# Altium footprint library usomiq-base.PcbLib: 28 footprints (part 1 of 2)
Each footprint in its own frame and in the unit in brackets; x right, y up, seen from the top. Pads: shape width x height; smd on the part's side, far side on the other; paste and mask are expansions set on the pad; w line width, h text height; cw(c..) or ccw(c..) is an arc to the next point about the centre after c.
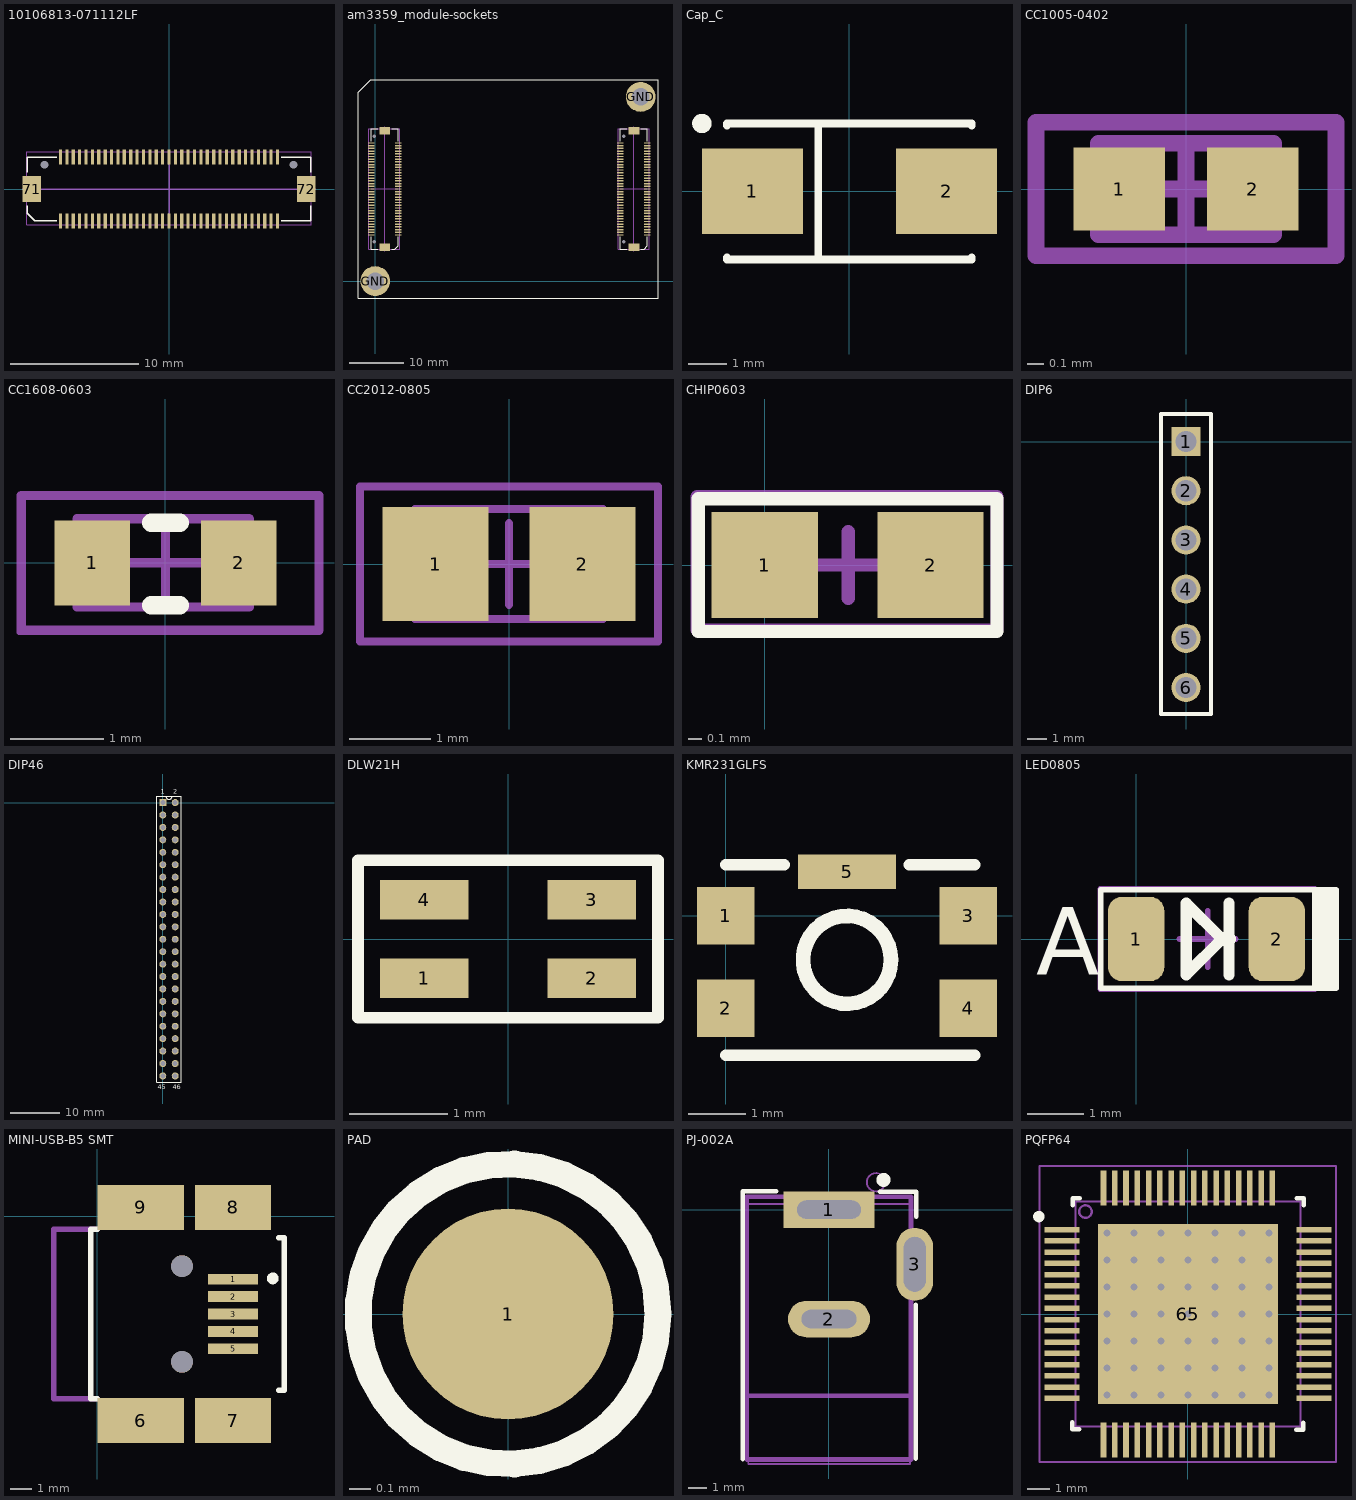
[diagram p0: the footprints below, top view; thin cyan lines are the x and y axes]

## 10106813-071112LF [mm]
pads (74):
  rect 0.25x1.2 smd paste+0 mask+0.02: 1(-8.5,-2.5)
  rect 0.25x1.2 smd mask+0.02: 2(-8.5,2.5) 3(-8,-2.5) 4(-8,2.5) 5(-7.5,-2.5) 6(-7.5,2.5) 7(-7,-2.5) 8(-7,2.5) 9(-6.5,-2.5) 10(-6.5,2.5) 11(-6,-2.5) 12(-6,2.5) 13(-5.5,-2.5) 14(-5.5,2.5) 15(-5,-2.5) 16(-5,2.5) 17(-4.5,-2.5) 18(-4.5,2.5) 19(-4,-2.5) 20(-4,2.5) 21(-3.5,-2.5) 22(-3.5,2.5) 23(-3,-2.5) 24(-3,2.5) 25(-2.5,-2.5) 26(-2.5,2.5) 27(-2,-2.5) 28(-2,2.5) 29(-1.5,-2.5) 30(-1.5,2.5) 31(-1,-2.5) 32(-1,2.5) 33(-0.5,-2.5) 34(-0.5,2.5) 35(0,-2.5) 36(0,2.5) 37(0.5,-2.5) 38(0.5,2.5) 39(1,-2.5) 40(1,2.5) 41(1.5,-2.5) 42(1.5,2.5) 43(2,-2.5) 44(2,2.5) 45(2.5,-2.5) 46(2.5,2.5) 47(3,-2.5) 48(3,2.5) 49(3.5,-2.5) 50(3.5,2.5) 51(4,-2.5) 52(4,2.5) 53(4.5,-2.5) 54(4.5,2.5) 55(5,-2.5) 56(5,2.5) 57(5.5,-2.5) 58(5.5,2.5) 59(6,-2.5) 60(6,2.5) 61(6.5,-2.5) 62(6.5,2.5) 63(7,-2.5) 64(7,2.5) 65(7.5,-2.5) 66(7.5,2.5) 67(8,-2.5) 68(8,2.5) 69(8.5,-2.5) 70(8.5,2.5)
  rect 1.45x2 smd mask+0.02: 71(-10.75,0) 72(10.75,0)
  rect 0.25x0 hole 0.625 unplated mask+0.02: NC(-9.75,1.9) NC(9.75,1.9)
Top Overlay:
  lines w0.1: -11.1,-1.3 -11.1,-1.9 -10.5,-2.5 -8.8,-2.5 ; -11.1,1.3 -11.1,2.5 -8.8,2.5 ; 8.8,-2.5 11.1,-2.5 11.1,-1.3 ; 8.8,2.5 11.1,2.5 11.1,1.3
Mechanical 1:
  lines w0.1: -11.5,0 0,0 11.5,0 ; 0,-2.5 0,2.5
Mechanical 2:
  lines w0.05: -11.15,-2.8 11.125,-2.8 11.125,2.9 -11.15,2.9 -11.15,-2.8
  text ".designator" at -1.5,-0.175 h0.5
3D body: height 3.5, standoff -0.6, extent -11.115,-2.825 11.125,2.875

## am3359_module-sockets [mm]
height 7
pads (150):
  rect 1.2x0.25 smd paste+0 mask+0.02: A1(4.25,8.5) A2(-0.75,8.5) A3(4.25,9) A4(-0.75,9) A5(4.25,9.5) A6(-0.75,9.5) A7(4.25,10) A8(-0.75,10) A9(4.25,10.5) A10(-0.75,10.5) A11(4.25,11) A12(-0.75,11) A13(4.25,11.5) A14(-0.75,11.5) A15(4.25,12) A16(-0.75,12) A17(4.25,12.5) A18(-0.75,12.5) A19(4.25,13) A20(-0.75,13) A21(4.25,13.5) A22(-0.75,13.5) A23(4.25,14) A24(-0.75,14) A25(4.25,14.5) A26(-0.75,14.5) A27(4.25,15) A28(-0.75,15) A29(4.25,15.5) A30(-0.75,15.5) A31(4.25,16) A32(-0.75,16) A33(4.25,16.5) A34(-0.75,16.5) A35(4.25,17) A36(-0.75,17) A37(4.25,17.5) A38(-0.75,17.5) A39(4.25,18) A40(-0.75,18) A41(4.25,18.5) A42(-0.75,18.5) A43(4.25,19) A44(-0.75,19) A45(4.25,19.5) A46(-0.75,19.5) A47(4.25,20) A48(-0.75,20) A49(4.25,20.5) A50(-0.75,20.5) A51(4.25,21) A52(-0.75,21) A53(4.25,21.5) A54(-0.75,21.5) A55(4.25,22) A56(-0.75,22) A57(4.25,22.5) A58(-0.75,22.5) A59(4.25,23) A60(-0.75,23) A61(4.25,23.5) A62(-0.75,23.5) A63(4.25,24) A64(-0.75,24) A65(4.25,24.5) A66(-0.75,24.5) A67(4.25,25) A68(-0.75,25) A69(4.25,25.5) A70(-0.75,25.5) B1(50.25,8.5) B2(45.25,8.5) B3(50.25,9) B4(45.25,9) B5(50.25,9.5) B6(45.25,9.5) B7(50.25,10) B8(45.25,10) B9(50.25,10.5) B10(45.25,10.5) B11(50.25,11) B12(45.25,11) B13(50.25,11.5) B14(45.25,11.5) B15(50.25,12) B16(45.25,12) B17(50.25,12.5) B18(45.25,12.5) B19(50.25,13) B20(45.25,13) B21(50.25,13.5) B22(45.25,13.5) B23(50.25,14) B24(45.25,14) B25(50.25,14.5) B26(45.25,14.5) B27(50.25,15) B28(45.25,15) B29(50.25,15.5) B30(45.25,15.5) B31(50.25,16) B32(45.25,16) B33(50.25,16.5) B34(45.25,16.5) B35(50.25,17) B36(45.25,17) B37(50.25,17.5) B38(45.25,17.5) B39(50.25,18) B40(45.25,18) B41(50.25,18.5) B42(45.25,18.5) B43(50.25,19) B44(45.25,19) B45(50.25,19.5) B46(45.25,19.5) B47(50.25,20) B48(45.25,20) B49(50.25,20.5) B50(45.25,20.5) B51(50.25,21) B52(45.25,21) B53(50.25,21.5) B54(45.25,21.5) B55(50.25,22) B56(45.25,22) B57(50.25,22.5) B58(45.25,22.5) B59(50.25,23) B60(45.25,23) B61(50.25,23.5) B62(45.25,23.5) B63(50.25,24) B64(45.25,24) B65(50.25,24.5) B66(45.25,24.5) B67(50.25,25) B68(45.25,25) B69(50.25,25.5) B70(45.25,25.5)
  round 5.5 hole 3.2 unplated mask+0.05: GND(0,0) GND(49,34)
  rect 2x1.45 smd mask+0.02: GND(1.75,6.25) GND(1.75,27.75) GND(47.75,6.25) GND(47.75,27.75)
  rect 0x0.25 hole 0.625 mask+0.02: NC(-0.15,7.25) NC(-0.15,26.75) NC(45.85,7.25) NC(45.85,26.75)
Top Overlay:
  lines w0.1: -0.75,8.2 -0.75,5.9 0.45,5.9 ; -0.75,25.8 -0.75,28.1 0.45,28.1 ; 3.05,5.9 3.65,5.9 4.25,6.5 4.25,8.2 ; 3.05,28.1 4.25,28.1 4.25,25.8 ; 45.25,8.2 45.25,5.9 46.45,5.9 ; 45.25,25.8 45.25,28.1 46.45,28.1 ; 49.05,5.9 49.65,5.9 50.25,6.5 50.25,8.2 ; 49.05,28.1 50.25,28.1 50.25,25.8 ; -3.175,-3.2 -3.175,34.825 -0.8,37.2 52.2,37.2 52.2,-3.2 -3.175,-3.2
Mechanical 1:
  lines w0.1: 1.75,17 1.75,5.5 1.75,17 ; 1.75,17 1.75,28.5 1.75,17 ; 47.75,17 47.75,5.5 47.75,17 ; 47.75,17 47.75,28.5 47.75,17 ; -0.75,17 4.25,17 -0.75,17 ; 45.25,17 50.25,17 45.25,17
Mechanical 2:
  lines w0.05: -1.15,5.85 -1.15,28.125 4.55,28.125 4.55,5.85 -1.15,5.85 ; 44.85,5.85 44.85,28.125 50.55,28.125 50.55,5.85 44.85,5.85
3D body: height 3.5, standoff -0.6, extent 44.875,5.885 50.575,28.125
3D body: height 3.5, standoff -0.6, extent -1.125,5.885 4.575,28.125

## Cap_C [mm] "Capacitor, SM Tantalum; Body 6.0 x 3.2 mm (LxW typ)"
height 3.4
pads (2):
  rect 2.6x2.2 smd: 1(-2.5,0) 2(2.5,0)
Top Overlay:
  circle w0.25: c-3.8,1.75 r0.125
  lines w0.2: -3.15,-1.7 -3.15,-1.75 3.15,-1.75 3.15,-1.7 ; -3.15,1.7 -3.15,1.75 3.15,1.75 3.15,1.7 ; -0.8,-1.75 -0.8,1.75
3D body: height 2.8, standoff 0, extent -3.15,-1.75 3.15,1.75

## CC1005-0402 [mm] "Chip Capacitor, 2-Leads, Body 1,0x0,5mm, IPC Medium Density"
height 0.35
pads (2):
  rect 0.55x0.5 smd mask+0.05: 1(-0.4,0) 2(0.4,0)
Mechanical 2:
  lines w0.05: -0.9,-0.4 0.9,-0.4 0.9,0.4 -0.9,0.4 -0.9,-0.4
  text ".designator" at -0.825,-0.2 h0.5
Mechanical 13:
  lines w0.1: -0.525,-0.275 -0.525,0.275 0.525,0.275 0.525,-0.275 -0.525,-0.275
Mechanical 15:
  lines w0.1: -0.275,0 0.275,0 ; 0,-0.275 0,0.275 ; -0.9,-0.4 -0.9,0.4 0.9,0.4 0.9,-0.4 -0.9,-0.4
3D body: height 0.51, standoff 0, extent -0.508,-0.25 0.508,0.258

## CC1608-0603 [mil] "Chip Capacitor, 2-Leads, Body 1,6x0,8mm, IPC Medium Density"
height 17.72
pads (2):
  rect 32x36 smd: 1(-31,0) 2(31,0)
Top Overlay:
  lines w7.87: -6,-18 6,-18 ; -6,17 6,17
Mechanical 2:
  lines w1.97: -62.01,-29.53 64.96,-29.53 64.96,28.54 -62.01,28.54 -62.01,-29.53
  text ".designator" at -43.31,-10.83 h19.68
Mechanical 13:
  lines w3.94: -37.42,-18.7 -37.42,18.7 35.42,18.7 35.42,-18.7 -37.42,-18.7
Mechanical 15:
  lines w3.94: -18.7,0 18.7,0 ; 0,-18.7 0,18.7 ; -60.99,-28.54 64.99,-28.54 64.99,28.54 -60.99,28.54 -60.99,-28.54
3D body: height 31.5, standoff 0, extent -31.49,-15.74 31.5,15.75

## CC2012-0805 [mm] "Chip Capacitor, 2-Leads, Body 2,0x1,25mm, IPC Medium Density"
height 0.6
pads (2):
  rect 1.3x1.4 smd: 1(-0.9,0) 2(0.9,0)
Mechanical 2:
  lines w0.05: -1.85,0.925 -1.85,-0.925 1.825,-0.925 1.825,0.95 -1.85,0.95
  text ".designator" at -1.525,-0.225 h0.5
Mechanical 13:
  lines w0.1: -1.15,-0.675 -1.15,0.675 1.15,0.675 1.15,-0.675 -1.15,-0.675
Mechanical 15:
  lines w0.1: -0.5,0 0.5,0 ; 0,-0.5 0,0.5 ; -1.825,-0.95 -1.825,0.95 1.825,0.95 1.825,-0.95 -1.825,-0.95
3D body: height 1.2, standoff 0, extent -1,-0.6 1,0.6

## CHIP0603 [mm]
height 0.7
pads (2):
  rect 0.8x0.8 smd: 1(0,0) 2(1.25,0)
Top Overlay:
  lines w0.1: -0.5,-0.5 -0.5,0.5 1.75,0.5 1.75,-0.5 -0.5,-0.5
Mechanical 13:
  lines w0.1: -0.51,-0.49 -0.51,0.51 1.75,0.51 1.75,-0.49 -0.51,-0.49
Mechanical 15:
  lines w0.1: 0.38,0 0.88,0 ; 0.63,-0.25 0.63,0.25 ; -0.51,-0.49 -0.51,0.516 1.75,0.516 1.75,-0.49 -0.51,-0.49
3D body: height 0.7, standoff 0.1, extent -0.525,-0.5 1.75,0.51
3D body: height 0.95, standoff 0, extent -0.165,-0.4 1.435,0.4

## DIP6 [mm]
pads (6):
  rect 1.48x1.48 hole 1.08: 1(0,0)
  round 1.48 hole 1.08: 2(0,-2.5) 3(0,-5) 4(0,-7.5) 5(0,-10) 6(0,-12.5)
Top Overlay:
  lines w0.2: -1.27,-13.843 1.27,-13.843 1.27,1.397 -1.27,1.397 -1.27,-13.843
3D body: height 2, standoff 0, extent -1.15,-13.725 1.125,1.275
3D body: height 8, standoff -3, extent -0.446,-0.449 0.45,0.449
3D body: height 8, standoff -3, extent -0.446,-2.949 0.45,-2.051
3D body: height 8, standoff -3, extent -0.446,-5.449 0.45,-4.551
3D body: height 8, standoff -3, extent -0.446,-7.949 0.45,-7.051
3D body: height 8, standoff -3, extent -0.446,-10.449 0.45,-9.551
3D body: height 8, standoff -3, extent -0.446,-12.949 0.45,-12.051

## DIP46 [mm]
pads (46):
  rect 1.42x1.42 hole 1.02: 1(0,0)
  round 1.42 hole 1.02: 2(2.54,0) 3(0,-2.54) 4(2.54,-2.54) 5(0,-5.08) 6(2.54,-5.08) 7(0,-7.62) 8(2.54,-7.62) 9(0,-10.16) 10(2.54,-10.16) 11(0,-12.7) 12(2.54,-12.7) 13(0,-15.24) 14(2.54,-15.24) 15(0,-17.78) 16(2.54,-17.78) 17(0,-20.32) 18(2.54,-20.32) 19(0,-22.86) 20(2.54,-22.86) 21(0,-25.4) 22(2.54,-25.4) 23(0,-27.94) 24(2.54,-27.94) 25(0,-30.48) 26(2.54,-30.48) 27(0,-33.02) 28(2.54,-33.02) 29(0,-35.56) 30(2.54,-35.56) 31(0,-38.1) 32(2.54,-38.1) 33(0,-40.64) 34(2.54,-40.64) 35(0,-43.18) 36(2.54,-43.18) 37(0,-45.72) 38(2.54,-45.72) 39(0,-48.26) 40(2.54,-48.26) 41(0,-50.8) 42(2.54,-50.8) 43(0,-53.34) 44(2.54,-53.34) 45(0,-55.88) 46(2.54,-55.88)
Top Overlay:
  lines w0.2: -1.27,-57.15 3.81,-57.15 3.81,1.27 0.635,1.27 ccw(c1.27,1.27) 1.905,1.27 -1.27,1.27 -1.27,-57.15
  text "46" at 2.032,-58.547 h1
  text "45" at -1.016,-58.547 h1
  text "2" at 2.159,1.778 h1
  text "1" at -0.381,1.778 h1
3D body: height 8.51, standoff 0, extent -1.27,-57.15 3.81,1.27

## DLW21H [mm] "DLW21H Series Murata"
height 1
pads (4):
  rect 0.9x0.4 smd mask+0.05: 1(-0.85,-0.4) 2(0.85,-0.4) 3(0.85,0.4) 4(-0.85,0.4)
Top Overlay:
  lines w0.12: -1.524,-0.8 1.524,-0.8 1.524,0.8 -1.524,0.8 -1.524,-0.8
3D body: height 1.2, standoff 0, extent -1,-0.6 1,0.6
3D body: height 1, standoff 0, extent -1,-0.6 1,0.6

## KMR231GLFS [mm] "Tactile Switches"
pads (5):
  rect 1x1 smd: 1(0,0) 2(0,-1.6) 3(4.2,0) 4(4.2,-1.6)
  rect 1.7x0.6 smd: 5(2.1,0.762)
Top Overlay:
  circle w0.254: c2.1,-0.762 r0.762
  lines w0.2: 0,-2.413 4.318,-2.413 ; 0,0.889 1.016,0.889 ; 3.175,0.889 4.318,0.889
3D body: height 1, standoff 0, extent 0.127,-2.286 4.064,0.762
3D body: height 1.5, standoff 0, extent 1.302,-1.56 2.896,0.036

## LED0805 [mm]
height 1
pads (2):
  rrect50% 1x1.5 smd: 1(0,0) 2(2.5,0)
Top Overlay:
  lines w0.1: 3.175,-0.875 3.175,0.875 ; 3.275,-0.875 3.275,0.875 ; 3.375,-0.875 3.375,0.875 ; 3.45,-0.875 3.45,0.875 ; -0.625,-0.875 3.55,-0.875 3.55,0.875 -0.625,0.875 -0.625,-0.875
  lines w0.2: 1.651,-0.635 1.651,0.635 ; 0.889,-0.635 1.524,0 0.889,0.635 0.889,-0.635
  lines w0.254: 1.524,0 1.651,0
  text "A" at -1.778,-0.635 h1.2
Mechanical 13:
  lines w0.1: -0.635,-0.889 -0.635,0.889 3.175,0.889 3.175,-0.889 -0.635,-0.889
Mechanical 15:
  lines w0.1: 0.77,0 1.77,0 ; 1.27,-0.5 1.27,0.5 ; -0.635,-0.889 -0.635,0.889 3.175,0.889 3.175,-0.889 -0.635,-0.889
3D body: height 1.1, standoff 0, extent 0.26,-0.625 2.28,0.625
3D body: height 1, standoff 0.1, extent -0.635,-0.889 3.175,0.889

## MINI-USB-B5 SMT [mm]
pads (11):
  rect 2.3x0.5 smd: 1(6.25,-2.9) 2(6.25,-3.7) 3(6.25,-4.5) 4(6.25,-5.3) 5(6.25,-6.1)
  rect 4x2.05 smd: 6(2,-9.4) 9(2,0.4)
  rect 3.5x2.05 smd: 7(6.25,-9.4) 8(6.25,0.4)
  round 1 hole 1 unplated: SYSPAD10(3.9,-6.7) SYSPAD11(3.9,-2.3)
Top Overlay:
  lines w0.25: 0,-8.4 -0.3,-8.4 -0.3,-0.6 0,-0.6 ; 8.35,-8 8.6,-8 8.6,-1 8.35,-1
  lines w0.254: 8.174,-2.763 ccw(c8.074,-2.863) 8.2,-2.8
Mechanical 15:
  lines w0.25: 0,-8.4 -2,-8.4 -2,-0.6 0,-0.6
3D body: height 3.95, standoff -1, extent -1.836,-9.795 7.364,0.905

## PAD [mm]
pads (1):
  round 1 smd mask+0.05: 1(0,0)
Top Overlay:
  circle w0.127: c0,0 r0.711

## PJ-002A [mm] "DC POWER JACK"
height 11
pads (3):
  rect 5x2 hole 1 slot 3.5 at 0 deg: 1(0,0)
  oval 4.5x2 hole 1 slot 3 at 0 deg: 2(0,-6)
  oval 2x4 hole 1.2 slot 3 at 90 deg: 3(4.7,-3)
Top Overlay:
  circle w0.4: c2.985,1.625 r0.185
  lines w0.254: -4.725,-13.675 -4.725,1 -2.9,1 ; 2.8,0.975 4.775,0.975 4.775,-0.4 ; 4.75,-13.645 4.75,-5.225
Mechanical 13:
  circle w0.1: c2.575,1.5 r0.5
  lines w0.1: -4.425,-13.95 -4.425,0.3 4.45,0.3 4.45,-13.95 -4.425,-13.95
Mechanical 15:
  lines w0.254: -4.5,-10.2 4.5,-10.2 ; -4.5,-13.7 4.5,-13.7 4.5,0.7 -4.5,0.7 -4.5,-13.7
3D body: height 11, standoff -3.78, extent -4.373,-13.589 4.927,0.411

## PQFP64 [mm] "64-Pin Quad Flat Pad 0.5 mm Pitch, IPC Low Density"
height 1
pads (65):
  rect 1.55x0.25 smd: 1(-5.6,3.75) 2(-5.6,3.25) 3(-5.6,2.75) 4(-5.6,2.25) 5(-5.6,1.75) 6(-5.6,1.25) 7(-5.6,0.75) 8(-5.6,0.25) 9(-5.6,-0.25) 10(-5.6,-0.75) 11(-5.6,-1.25) 12(-5.6,-1.75) 13(-5.6,-2.25) 14(-5.6,-2.75) 15(-5.6,-3.25) 16(-5.6,-3.75) 33(5.6,-3.75) 34(5.6,-3.25) 35(5.6,-2.75) 36(5.6,-2.25) 37(5.6,-1.75) 38(5.6,-1.25) 39(5.6,-0.75) 40(5.6,-0.25) 41(5.6,0.25) 42(5.6,0.75) 43(5.6,1.25) 44(5.6,1.75) 45(5.6,2.25) 46(5.6,2.75) 47(5.6,3.25) 48(5.6,3.75)
  rect 0.25x1.55 smd: 17(-3.75,-5.6) 18(-3.25,-5.6) 19(-2.75,-5.6) 20(-2.25,-5.6) 21(-1.75,-5.6) 22(-1.25,-5.6) 23(-0.75,-5.6) 24(-0.25,-5.6) 25(0.25,-5.6) 26(0.75,-5.6) 27(1.25,-5.6) 28(1.75,-5.6) 29(2.25,-5.6) 30(2.75,-5.6) 31(3.25,-5.6) 32(3.75,-5.6) 49(3.75,5.6) 50(3.25,5.6) 51(2.75,5.6) 52(2.25,5.6) 53(1.75,5.6) 54(1.25,5.6) 55(0.75,5.6) 56(0.25,5.6) 57(-0.25,5.6) 58(-0.75,5.6) 59(-1.25,5.6) 60(-1.75,5.6) 61(-2.25,5.6) 62(-2.75,5.6) 63(-3.25,5.6) 64(-3.75,5.6)
  rect 8x8 smd: 65(0,0)
via -3.6,-2.4 diameter 0.8 hole 0.3
via -3.6,-1.2 diameter 0.8 hole 0.3
via -3.6,0 diameter 0.8 hole 0.3
via -3.6,1.2 diameter 0.8 hole 0.3
via -3.6,2.4 diameter 0.8 hole 0.3
via -3.6,3.6 diameter 0.8 hole 0.3
via -3.6,-3.6 diameter 0.8 hole 0.3
via 3.6,-2.4 diameter 0.8 hole 0.3
via 3.6,-1.2 diameter 0.8 hole 0.3
via 3.6,0 diameter 0.8 hole 0.3
via 3.6,1.2 diameter 0.8 hole 0.3
via 3.6,2.4 diameter 0.8 hole 0.3
via 3.6,3.6 diameter 0.8 hole 0.3
via 3.6,-3.6 diameter 0.8 hole 0.3
via 2.4,-3.6 diameter 0.8 hole 0.3
via 1.2,-3.6 diameter 0.8 hole 0.3
via 0,-3.6 diameter 0.8 hole 0.3
via -1.2,-3.6 diameter 0.8 hole 0.3
via -2.4,-3.6 diameter 0.8 hole 0.3
via 2.4,3.6 diameter 0.8 hole 0.3
via 1.2,3.6 diameter 0.8 hole 0.3
via 0,3.6 diameter 0.8 hole 0.3
via -1.2,3.6 diameter 0.8 hole 0.3
via -2.4,3.6 diameter 0.8 hole 0.3
via -2.4,2.4 diameter 0.8 hole 0.3
via -1.2,2.4 diameter 0.8 hole 0.3
via 0,2.4 diameter 0.8 hole 0.3
via 1.2,2.4 diameter 0.8 hole 0.3
via 2.4,2.4 diameter 0.8 hole 0.3
via -2.4,1.2 diameter 0.8 hole 0.3
via -1.2,1.2 diameter 0.8 hole 0.3
via 0,1.2 diameter 0.8 hole 0.3
via 1.2,1.2 diameter 0.8 hole 0.3
via 2.4,1.2 diameter 0.8 hole 0.3
via -2.4,0 diameter 0.8 hole 0.3
via -1.2,0 diameter 0.8 hole 0.3
via 0,0 diameter 0.8 hole 0.3
via 1.2,0 diameter 0.8 hole 0.3
via 2.4,0 diameter 0.8 hole 0.3
via -2.4,-1.2 diameter 0.8 hole 0.3
via -1.2,-1.2 diameter 0.8 hole 0.3
via 0,-1.2 diameter 0.8 hole 0.3
via 1.2,-1.2 diameter 0.8 hole 0.3
via 2.4,-1.2 diameter 0.8 hole 0.3
via -2.4,-2.4 diameter 0.8 hole 0.3
via -1.2,-2.4 diameter 0.8 hole 0.3
via 0,-2.4 diameter 0.8 hole 0.3
via 1.2,-2.4 diameter 0.8 hole 0.3
via 2.4,-2.4 diameter 0.8 hole 0.3
Top Overlay:
  circle w0.25: c-6.625,4.325 r0.125
  lines w0.2: -5.15,-4.8 -5.15,-5.125 -4.825,-5.125 ; -5.125,4.825 -5.125,5.15 -4.8,5.15 ; 4.8,-5.15 5.125,-5.15 5.125,-4.825 ; 4.825,5.15 5.15,5.15 5.15,4.825
Bottom Solder:
  circle w0.6: c3.6,-3.6 r0.15
  circle w0.6: c3.6,-2.4 r0.15
  circle w0.6: c3.6,-1.2 r0.15
  circle w0.6: c3.6,0 r0.15
  circle w0.6: c3.6,1.2 r0.15
  circle w0.6: c3.6,2.4 r0.15
  circle w0.6: c3.6,3.6 r0.15
  circle w0.6: c2.4,2.4 r0.15
  circle w0.6: c2.4,3.6 r0.15
  circle w0.6: c2.4,1.2 r0.15
  circle w0.6: c2.4,0 r0.15
  circle w0.6: c2.4,-1.2 r0.15
  circle w0.6: c2.4,-2.4 r0.15
  circle w0.6: c2.4,-3.6 r0.15
  circle w0.6: c1.2,-3.6 r0.15
  circle w0.6: c1.2,-2.4 r0.15
  circle w0.6: c1.2,-1.2 r0.15
  circle w0.6: c1.2,0 r0.15
  circle w0.6: c1.2,1.2 r0.15
  circle w0.6: c1.2,2.4 r0.15
  circle w0.6: c1.2,3.6 r0.15
  circle w0.6: c0,3.6 r0.15
  circle w0.6: c0,2.4 r0.15
  circle w0.6: c0,1.2 r0.15
  circle w0.6: c0,0 r0.15
  circle w0.6: c0,-1.2 r0.15
  circle w0.6: c0,-2.4 r0.15
  circle w0.6: c0,-3.6 r0.15
  circle w0.6: c-1.2,-3.6 r0.15
  circle w0.6: c-1.2,-2.4 r0.15
  circle w0.6: c-1.2,-1.2 r0.15
  circle w0.6: c-1.2,0 r0.15
  circle w0.6: c-1.2,1.2 r0.15
  circle w0.6: c-1.2,2.4 r0.15
  circle w0.6: c-1.2,3.6 r0.15
  circle w0.6: c-2.4,3.6 r0.15
  circle w0.6: c-2.4,2.4 r0.15
  circle w0.6: c-2.4,1.2 r0.15
  circle w0.6: c-2.4,0 r0.15
  circle w0.6: c-2.4,-1.2 r0.15
  circle w0.6: c-2.4,-2.4 r0.15
  circle w0.6: c-2.4,-3.6 r0.15
  circle w0.6: c-3.6,-3.6 r0.15
  circle w0.6: c-3.6,-2.4 r0.15
  circle w0.6: c-3.6,-1.2 r0.15
  circle w0.6: c-3.6,0 r0.15
  circle w0.6: c-3.6,1.2 r0.15
  circle w0.6: c-3.6,2.4 r0.15
  circle w0.6: c-3.6,3.6 r0.15
Mechanical 13:
  circle w0.1: c-4.555,4.55 r0.28
  lines w0.1: -5,-5 -5,5 5,5 5,-5 -5,-5
Mechanical 15:
  lines w0.1: -0.5,0 0.5,0 ; 0,-0.5 0,0.5 ; -6.6,-6.575 -6.6,6.575 6.575,6.575 6.575,-6.575 -6.6,-6.575
3D body: height 1, standoff 0, extent -5.787,-5.79 5.787,5.791